# Altium schematic symbol library LED_1206.SchLib: 1 symbol
Pins are listed as number, name and electrical type; pins without a type are passive.

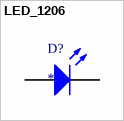
[diagram p0: symbol LED_1206]

## LED_1206
designator D?
footprint LED_1206
pins: 1 A, 2 K